# Altium footprint library pinheader_P3R1_SMD.PcbLib: 1 footprints
Each footprint in its own frame and in the unit in brackets; x right, y up, seen from the top. Pads: shape width x height; smd on the part's side, far side on the other; paste and mask are expansions set on the pad; w line width, h text height; cw(c..) or ccw(c..) is an arc to the next point about the centre after c.
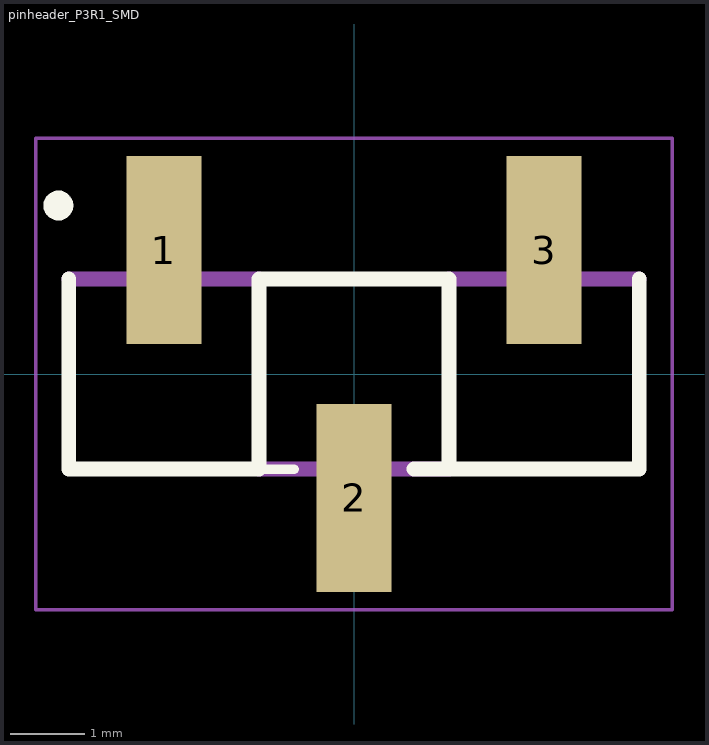
[diagram p0: the footprint, top view; thin cyan lines are the x and y axes]

## pinheader_P3R1_SMD [mm]
pads (3):
  rect 1x2.51 smd: 1(-2.54,1.655) 2(0,-1.655) 3(2.54,1.655)
Top Overlay:
  circle w0.2: c-3.95,2.25 r0.1
  lines w0.127: -1.27,-1.27 -0.8,-1.27
  lines w0.2: -3.81,1.27 -3.81,-1.27 -1.27,-1.27 -1.27,1.27 1.27,1.27 1.27,-1.27 ; 0.8,-1.27 1.27,-1.27 ; 3.81,1.27 3.81,-1.27 1.27,-1.27
Top 3D Body:
  lines w0.127: -3.81,1.27 -3.81,-1.27 -1.27,-1.27 -1.27,1.27 1.27,1.27 1.27,-1.27 3.81,-1.27 3.81,1.27
  lines w0.2: -3.81,1.27 -1.27,1.27 ; -1.27,-1.27 1.27,-1.27 ; 1.27,1.27 3.81,1.27
Top Courtyard:
  lines w0.05: -4.25,-3.15 4.25,-3.15 4.25,3.15 -4.25,3.15 -4.25,-3.15
3D body "95293-101A03LF.STEP": height 9.65, standoff 0, extent -3.61,-2.418 3.61,2.418